# Altium schematic symbol library STY130NF20D.SCHLIB: 2 symbols
Pins are listed as number, name and electrical type; pins without a type are passive.

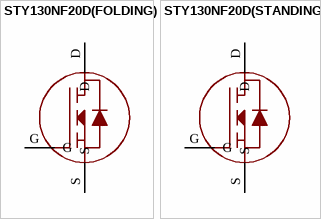
[diagram p0: symbols STY130NF20D(FOLDING) to STY130NF20D(STANDING)]

## STY130NF20D(FOLDING)
designator ?
GateName_1: G$1; SymbolName_1: STY130NF20D; DeviceSetName: STY130NF20D(FOLDING); LibraryName: STY130NF20D; Package: STY130NF20D(FOLDED)
footprint STY130NF20D(FOLDED)
pins: D, G, S

## STY130NF20D(STANDING)
designator ?
GateName_1: G$1; SymbolName_1: STY130NF20D; DeviceSetName: STY130NF20D(STANDING); LibraryName: STY130NF20D; Package: STY130NF20D(STANDING)
footprint STY130NF20D(STANDING)
pins: D, G, S